# Altium schematic symbol library BMS_V2.1_Adv.SchLib: 129 symbols (part 1 of 3)
Pins are listed as number, name and electrical type; pins without a type are passive.

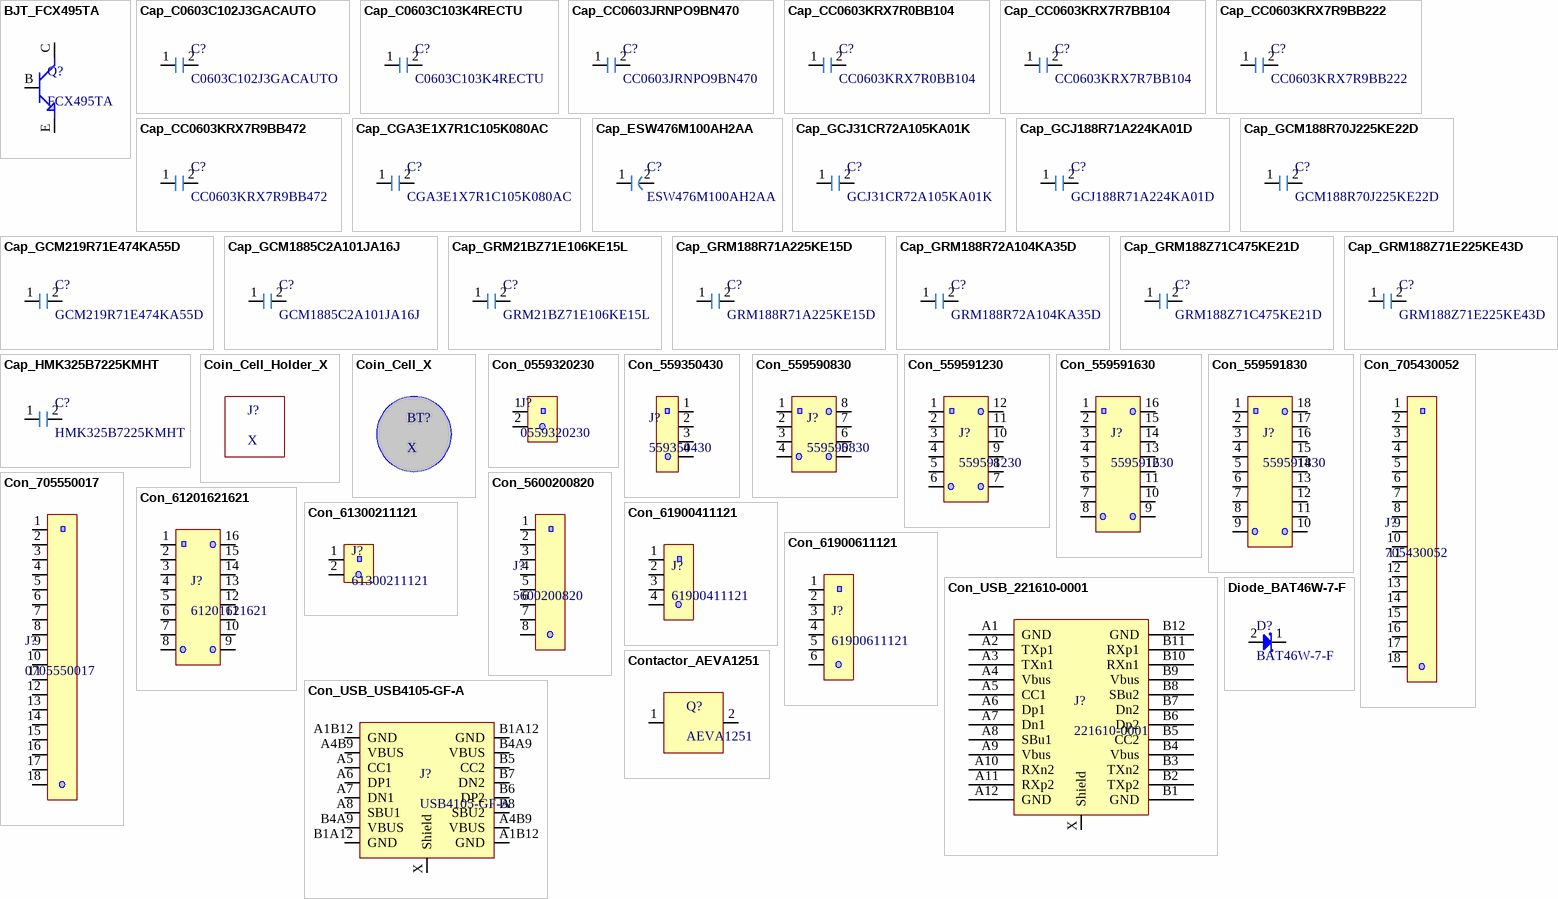
[diagram p0: symbols BJT_FCX495TA to Diode_BAT46W-7-F]

## BJT_FCX495TA
designator Q?, comment FCX495TA
Bipolar (BJT) Transistor NPN 150 V 1 A 100MHz 1 W Surface Mount SOT-89-3; Manufacturer: Diodes Inc.; Value: 150V 1A; Power: 1W; Voltage: 150V; AEC-Q: 101; Max Temp: 150 degC; Min Temp: -65 degC; Package: SOT 89-3; Manufacturer Part Number: FCX495TA; Category: BJT; RoHS: Yes; Supplier 1 pricing per Unit: 38.37 INR; ComponentLink1Description: Datasheet; ComponentLink1URL: https://www.diodes.com/assets/Datasheets/FCX495.pdf; Supplier 1: Digikey; Supplier: Mouser; Value 1: FCX495TA; Value Display: 150V 1A; Supplier 1 Part Number: FCX495CT-ND; Supplier Part Number: 522-FCX495TA; Supplier pricing per Unit: 27.52 INR; Mount Type: Surface Mount; Technology: BJT; Channel: NPN
footprint SOT89-150P410X160-3N (SOT89, 3-Leads, Body 4.50x2.50mm, Pitch 1.50mm, Lead Span 4.1mm, IPC Medium Density)
pins: B Base, C Collector, E Emitter

## Cap_C0603C102J3GACAUTO
designator C?, comment C0603C102J3GACAUTO
Multilayer Ceramic Capacitor, 1000 pF, 25V, ±5%,  C0G 0603 [1608 Metric]; Manufacturer: KEMET; Value: 1nF; Max Temp: 125 degC; Min Temp: -55 degC; Polarized: No; Temp Coefficient: C0G, NP0; Value Display: 1nF,25 V,0603; AEC-Q: 200; Manufacturer Part Number: C0603C102J3GACAUTO; Voltage: 25V; Category: Capacitor; ComponentLink1Description: Datasheet; Mount Type: Surface Mount; Package: 0603; RoHS: Yes; Supplier 1: Digikey; Supplier 1 Part Number: 399-C0603C102J3GACAUTOCT-ND; Supplier 1 pricing per Unit: 9.17 INR; Supplier: Mouser; Supplier Part Number: 80-C0603C102J3GAUTO; Supplier pricing per Unit: 8.34 INR; Technology: Ceramic; Tolerance: 5%; Value 1: C0603C102J3GACAUTO; ComponentLink1URL: https://connect.kemet.com:7667/gateway/IntelliData-ComponentDocumentation/1.0/download/datasheet/C0603C102J3GACAUTO
footprint CAPC1608X05N 0603 (Chip Capacitor, 2-Leads, Body 1.55x0.85mm, IPC Medium Density)
pins: 1, 2

## Cap_C0603C103K4RECTU
designator C?, comment C0603C103K4RECTU
Multilayer Ceramic Capacitor, 10 nF, 16V, ±10%,  X7R 0603 [1608 Metric]; Manufacturer: KEMET; AEC-Q: NA; Max Temp: 125 degC; Min Temp: -55 degC; Polarized: No; Value: 10 nF; Value Display: 10nF,16 V,0603; Category: Capacitor; ComponentLink1Description: Datasheet; ComponentLink1URL: https://content.kemet.com/datasheets/KEM_C1090_X7R_ESD.pdf; Manufacturer Part Number: C0603C103K4RECTU; Mount Type: Surface Mount; Package: 0603; RoHS: Yes; Supplier 1: Digikey; Supplier 1 Part Number: 399-C0603C103K4REC7867CT-ND; Supplier 1 pricing per Unit: 9.21 INR; Supplier: Mouser; Supplier Part Number: 80-C0603C103K4RECTU; Supplier pricing per Unit: 8.34 INR; Technology: Ceramic; Temp Coefficient: X7R; Tolerance: 10%; Value 1: C0603C103K4RECTU; Voltage: 16V
footprint CAPC1608X05N 0603 (Chip Capacitor, 2-Leads, Body 1.55x0.85mm, IPC Medium Density)
pins: 1, 2

## Cap_CC0603JRNPO9BN470
designator C?, comment CC0603JRNPO9BN470
Multilayer Ceramic Capacitor, 47 pF, 50V, ±5%,  C0G 0603 [1608 Metric]; Manufacturer: Yageo; AEC-Q: NA; Max Temp: 125 degC; Min Temp: -55 degC; Polarized: No; Temp Coefficient: C0G, NP0; Value: 47pF; Value Display: 47pF,50 V,0603; Manufacturer Part Number: CC0603JRNPO9BN470; Category: Capacitor; ComponentLink1Description: Datasheet; ComponentLink1URL: https://www.yageo.com/upload/media/product/productsearch/datasheet/mlcc/UPY-GP_NP0_16V-to-50V_18.pdf; Mount Type: Surface Mount; Package: 0603; RoHS: Yes; Supplier 1: Digikey; Supplier 1 Part Number: 311-1065-1-ND; Supplier 1 pricing per Unit: 8.34 INR; Supplier: Mouser; Supplier Part Number: 603-CC603JRNPO9BN470; Supplier pricing per Unit: 8.34 INR; Technology: Ceramic; Tolerance: 5%; Value 1: CC0603JRNPO9BN470; Voltage: 50V
footprint CAPC1608X05N 0603 (Chip Capacitor, 2-Leads, Body 1.55x0.85mm, IPC Medium Density)
pins: 1, 2

## Cap_CC0603KRX7R0BB104
designator C?, comment CC0603KRX7R0BB104
Multilayer Ceramic Capacitor, 0.1uF, 100V, ±10%,  X7R 0603 [1608 Metric]; Manufacturer: Yageo; AEC-Q: NA; Max Temp: 125 degC; Min Temp: -55 degC; Polarized: No; Value Display: 0.1uF,100V,0603; Category: Capacitor; ComponentLink1Description: Datasheet; ComponentLink1URL: https://www.yageo.com/upload/media/product/app/datasheet/mlcc/upy-np0x7r_mv_100-to-630v.pdf; Manufacturer Part Number: CC0603KRX7R0BB104; Mount Type: Surface Mount; Package: 0603; RoHS: Yes; Supplier 1: Digikey; Supplier 1 Part Number: 311-1523-1-ND; Supplier 1 pricing per Unit: 14.19 INR; Supplier: Mouser; Supplier Part Number: 603-CC603KRX7R0BB104; Supplier pricing per Unit: 14.19 INR; Technology: Ceramic; Temp Coefficient: X7R; Tolerance: 10%; Value 1: CC0603KRX7R0BB104; Value: 0.1uF; Voltage: 100V
footprint CAPC1608X05N 0603 (Chip Capacitor, 2-Leads, Body 1.55x0.85mm, IPC Medium Density)
pins: 1, 2

## Cap_CC0603KRX7R7BB104
designator C?, comment CC0603KRX7R7BB104
Multilayer Ceramic Capacitor, 100 nF, 16V, ±10%,  X7R 0603 [1608 Metric]; Manufacturer: Yageo; Value: 100nF; Max Temp: 125 degC; Min Temp: -55 degC; Polarized: No; Value Display: 100nF,16 V,0603; AEC-Q: NA; Manufacturer Part Number: CC0603KRX7R7BB104; Category: Capacitor; ComponentLink1Description: Datasheet; Mount Type: Surface Mount; Package: 0603; RoHS: Yes; Supplier 1: Digikey; Supplier 1 Part Number: 311-1088-1-ND; Supplier 1 pricing per Unit: 8.34 INR; Supplier: Mouser; Supplier Part Number: 603-CC603KRX7R7BB104; Supplier pricing per Unit: 8.34 INR; Technology: Ceramic; Temp Coefficient: X7R; Tolerance: 10%; Value 1: CC0603KRX7R7BB104; Voltage: 16V; ComponentLink1URL: https://www.yageo.com/upload/media/product/productsearch/datasheet/mlcc/UPY-GPHC_X7R_6.3V-to-250V_24.pdf
footprint CAPC1608X05N 0603 (Chip Capacitor, 2-Leads, Body 1.55x0.85mm, IPC Medium Density)
pins: 1, 2

## Cap_CC0603KRX7R9BB222
designator C?, comment CC0603KRX7R9BB222
Multilayer Ceramic Capacitor, 2.2nF, 50V, ±10%,  X7R 0603 [1608 Metric]; Manufacturer: Yageo; AEC-Q: NA; Max Temp: 125 degC; Min Temp: -55 degC; Polarized: No; Value Display: 2.2nF,50 V,0603; Manufacturer Part Number: CC0603KRX7R9BB222; Category: Capacitor; ComponentLink1Description: Datasheet; ComponentLink1URL: https://www.yageo.com/upload/media/product/productsearch/datasheet/mlcc/UPY-GPHC_X7R_6.3V-to-250V_24.pdf; Mount Type: Surface Mount; Package: 0603; RoHS: Yes; Supplier 1: Digikey; Supplier 1 Part Number: 311-1081-1-ND; Supplier 1 pricing per Unit: 8.34 INR; Supplier: Mouser; Supplier Part Number: 603-CC603KRX7R9BB222; Supplier pricing per Unit: 8.34 INR; Technology: Ceramic; Temp Coefficient: X7R; Tolerance: 10%; Value 1: CC0603KRX7R9BB222; Value: 2.2 nF; Voltage: 50V
footprint CAPC1608X05N 0603 (Chip Capacitor, 2-Leads, Body 1.55x0.85mm, IPC Medium Density)
pins: 1, 2

## Cap_CC0603KRX7R9BB472
designator C?, comment CC0603KRX7R9BB472
Multilayer Ceramic Capacitor, 2.2nF, 50V, ±10%,  X7R 0603 [1608 Metric]; Manufacturer: Yageo; AEC-Q: NA; Max Temp: 125 degC; Min Temp: -55 degC; Polarized: No; Value: 4.7 nF; Value Display: 4.7nF,50 V,0603; Category: Capacitor; ComponentLink1Description: Datasheet; ComponentLink1URL: https://www.yageo.com/upload/media/product/productsearch/datasheet/mlcc/UPY-GPHC_X7R_6.3V-to-250V_24.pdf; Manufacturer Part Number: CC0603KRX7R9BB472; Mount Type: Surface Mount; Package: 0603; RoHS: Yes; Supplier 1: Digikey; Supplier 1 Part Number: 311-1083-1-ND; Supplier 1 pricing per Unit: 8.34 INR; Supplier: Mouser; Supplier Part Number: 603-C0603KRX7R9BB472; Supplier pricing per Unit: 8.34 INR; Technology: Ceramic; Temp Coefficient: X7R; Tolerance: 10%; Value 1: CC0603KRX7R9BB472; Voltage: 50V
footprint CAPC1608X05N 0603 (Chip Capacitor, 2-Leads, Body 1.55x0.85mm, IPC Medium Density)
pins: 1, 2

## Cap_CGA3E1X7R1C105K080AC
designator C?, comment CGA3E1X7R1C105K080AC
Multilayer Ceramic Capacitor, 1uF, 16V, ±10%,  X7R 0603 [1608 Metric]; Manufacturer: TDK Corporation; Polarized: No; AEC-Q: 200; Min Temp: -55 degC; Max Temp: 125 degC; Value Display: 1uF,16 V,0603; Value: 1 uF; Manufacturer Part Number: CGA3E1X7R1C105K080AC; Package: 0603; RoHS: Yes; Mount Type: Surface Mount; Supplier 1: Digikey; Voltage: 16V; Tolerance: 10%; Technology: Ceramic; Value 1: CGA3E1X7R1C105K080AC; Category: Capacitor; ComponentLink1Description: Datasheet; ComponentLink1URL: https://product.tdk.com/system/files/dam/doc/product/capacitor/ceramic/mlcc/catalog/mlcc_automotive_general_en.pdf; Supplier 1 Part Number: 445-12539-1-ND; Supplier 1 pricing per Unit: 10.84 INR; Supplier: Mouser; Supplier Part Number: 810-CGA3E1X7R1C105AC; Supplier pricing per Unit: 10.01 INR; Temp Coefficient: X7R
footprint CAPC1608X05N 0603 (Chip Capacitor, 2-Leads, Body 1.55x0.85mm, IPC Medium Density)
pins: 1, 2

## Cap_ESW476M100AH2AA
designator C?, comment ESW476M100AH2AA
Aluminum Electrolytic Capacitors Radial, 47 µF 100 V, Can 370mOhm @ 100kHz 5000 Hrs @ 105°C; Manufacturer: KEMET; AEC-Q: NA; Max Temp: 105 degC; Min Temp: -40 degC; Pitch: 5 mm; Polarized: Yes; Temp Coefficient: Electrolyte; Tolerance: 20%; Value: 47uF; Value Display: 47uF, 100 V; Voltage: 100V; Manufacturer Part Number: ESW476M100AH2AA; Category: Capacitor; ComponentLink1Description: Datasheet; ComponentLink1URL: https://www.mouser.in/datasheet/2/447/KEM_A4009_ESW-3316312.pdf; Mount Type: TH; Package: TH; RoHS: Yes; Supplier 1: Digikey; Supplier 1 Part Number: 399-6631-ND; Supplier 1 pricing per Unit: 35.85 INR; Supplier: Mouser; Supplier Part Number: 80-ESW476M100AH2AA; Supplier pricing per Unit: 35.86 INR; Technology: Electrolyte; Value 1: ESW476M100AH2AA
footprint Aluminium Electrolytic Capacitor (Electrolytic Capacitor -Through Hole)
pins: 1, 2

## Cap_GCJ31CR72A105KA01K
designator C?, comment GCJ31CR72A105KA01K
Multilayer Ceramic Capacitor, 1uF, 100V, ±10%,  X7R 1206 [3216 Metric]; Manufacturer: Murata; Value Display: 1uF, 100 V, 0603; AEC-Q: 200; Max Temp: 125 degC; Min Temp: -55 degC; Polarized: No; Value: 1uF; Tolerance: 10%; Manufacturer Part Number: GCJ31CR72A105KA01K; Package: 1206; Category: Capacitor; Voltage: 100V; Temp Coefficient: X7R; RoHS: Yes; Supplier: Mouser; Supplier 1 pricing per Unit: 40.02 INR; ComponentLink1Description: Datasheet; ComponentLink1URL: https://search.murata.co.jp/Ceramy/image/img/A01X/G101/ENG/GCJ31CR72A105KA01-01.pdf; Supplier 1: Digikey; Value 1: GCJ31CR72A105KA01K; Supplier 1 Part Number: 490-GCJ31CR72A105KA01KCT-ND; Supplier Part Number: 81-GCJ31CR72A105KA1K; Supplier pricing per Unit: 40.3 INR; Mount Type: Surface Mount; Technology: Ceramic
footprint CAPC3216X19N 1206 (Chip Capacitor, 2-Leads, Body 3.20x1.60mm, IPC Medium Density)
pins: 1, 2

## Cap_GCJ188R71A224KA01D
designator C?, comment GCJ188R71A224KA01D
Multilayer Ceramic Capacitor, 220 nF, 10V, ±10%,  X7R 0603 [1608 Metric]; Manufacturer: Murata; Value: 220 nF; Value Display: 220nF, 10 V, 0603; AEC-Q: 200; Max Temp: 125 degC; Min Temp: -55 degC; Polarized: No; Manufacturer Part Number: GCJ188R71A224KA01D; Tolerance: 10%; Package: 0603; Category: Capacitor; Temp Coefficient: X7R; RoHS: Yes; Voltage: 10V; Supplier: Mouser; Supplier 1 pricing per Unit: 16.28 INR; ComponentLink1Description: Datasheet; ComponentLink1URL: https://search.murata.co.jp/Ceramy/image/img/A01X/G101/ENG/GCJ188R71A224KA01-02B.pdf; Supplier 1: Digikey; Value 1: GCJ188R71A224KA01D; Supplier 1 Part Number: 490-GCJ188R71A224KA01DTR-ND; Supplier Part Number: 81-GCJ188R71A224KA1D; Supplier pricing per Unit: 12.51 INR; Mount Type: Surface Mount; Technology: Ceramic
footprint CAPC1608X05N 0603 (Chip Capacitor, 2-Leads, Body 1.55x0.85mm, IPC Medium Density)
pins: 1, 2

## Cap_GCM188R70J225KE22D
designator C?, comment GCM188R70J225KE22D
Multilayer Ceramic Capacitor, 2.2 uF, 6.3V, ±10%,  X7R 0603 [1608 Metric]; Manufacturer: Murata; Value: 2.2 uF; Value Display: 2.2uF,6.3 V,0603; AEC-Q: 200; Max Temp: 125 degC; Min Temp: -55 degC; Polarized: No; Manufacturer Part Number: GCM188R70J225KE22D; Tolerance: 10%; Category: Capacitor; Temp Coefficient: X7R; Package: 0603; Voltage: 6.3V; Supplier: Mouser; Supplier 1 pricing per Unit: 21.60 INR; RoHS: Yes; ComponentLink1Description: Datasheet; ComponentLink1URL: https://search.murata.co.jp/Ceramy/image/img/A01X/G101/ENG/GCM188R70J225KE22-01.pdf; Supplier 1: Digikey; Value 1: GCM188R70J225KE22D; Supplier 1 Part Number: 490-5316-1-ND; Supplier Part Number: 81-GCM188R70J225KE2D; Supplier pricing per Unit: 20.85 INR; Mount Type: Surface Mount; Technology: Ceramic
footprint CAPC1608X05N 0603 (Chip Capacitor, 2-Leads, Body 1.55x0.85mm, IPC Medium Density)
pins: 1, 2

## Cap_GCM219R71E474KA55D
designator C?, comment GCM219R71E474KA55D
Multilayer Ceramic Capacitor, 0.47 uF, 25V, ±10%,  X7R 0805 [2012 Metric]; Manufacturer: Murata; Value: 0.47 uF; AEC-Q: 200; Value Display: 0.47uF,25 V,0805; Max Temp: 125 degC; Min Temp: -55 degC; Polarized: No; Manufacturer Part Number: GCM219R71E474KA55D; Supplier: Mouser; Supplier 1: Digikey; Package: 0805; RoHS: Yes; Temp Coefficient: X7R; Category: Capacitor; ComponentLink1Description: Datasheet; ComponentLink1URL: https://www.murata.com/-/media/webrenewal/support/library/catalog/products/k35e.ashx?la=en-us&cvid=20200508021757000000; Supplier 1 Part Number: 490-8044-1-ND; Supplier 1 pricing per Unit: 26.68 INR; Supplier Part Number: 81-GCM219R71E474KA5D; Supplier pricing per Unit: 26.69 INR; Tolerance: 10%; Value 1: GCM219R71E474KA55D; Voltage: 25V; Mount Type: Surface Mount; Technology: Ceramic
footprint CAPC2012X13N 0805 (Chip Capacitor, 2-Leads, Body 2.05x1.23mm, IPC Medium Density)
pins: 1, 2

## Cap_GCM1885C2A101JA16J
designator C?, comment GCM1885C2A101JA16J
Multilayer Ceramic Capacitor, 100 pF, 100V, ±5%,  C0G 0603 [1608 Metric]; Manufacturer: Murata; Value: 100pF; Value Display: 100pF,100 V,0603; AEC-Q: 200; Max Temp: 125 degC; Min Temp: -55 degC; Polarized: No; Category: Capacitor; Temp Coefficient: C0G; Tolerance: 5%; Voltage: 100V; Manufacturer Part Number: GCM1885C2A101JA16J; Package: 0603; RoHS: Yes; Supplier: Mouser; Supplier 1 pricing per Unit: 8.33 INR; ComponentLink1Description: Datasheet; ComponentLink1URL: https://www.murata.com/-/media/webrenewal/support/library/catalog/products/k35e.ashx?la=en-us&cvid=20200508021757000000; Supplier 1: Digikey; Value 1: GCM1885C2A101JA16J; Supplier 1 Part Number: 490-GCM1885C2A101JA16JCT-ND; Supplier Part Number: 81-GCM1885C2A101JA6J; Supplier pricing per Unit: 8.33 INR; Mount Type: Surface Mount; Technology: Ceramic
footprint CAPC1608X05N 0603 (Chip Capacitor, 2-Leads, Body 1.55x0.85mm, IPC Medium Density)
pins: 1, 2

## Cap_GRM21BZ71E106KE15L
designator C?, comment GRM21BZ71E106KE15L
Multilayer Ceramic Capacitor, 10 uF, 25V, ±10%,  X7R 0805 (2012 Metric); Manufacturer: Murata; AEC-Q: NA; Max Temp: 125 degC; Min Temp: -55 degC; Polarized: No; Value: 10 uF; Value Display: 10uF, 25V, 0805; Category: Capacitor; ComponentLink1Description: Datasheet; ComponentLink1URL: https://search.murata.co.jp/Ceramy/image/img/A01X/G101/ENG/GRM21BZ71E106KE15-01.pdf; Manufacturer Part Number: GRM21BZ71E106KE15L; Mount Type: Surface Mount; Package: 0805; RoHS: Yes; Supplier 1: Digikey; Supplier 1 Part Number: 490-GRM21BZ71E106KE15LCT-ND; Supplier 1 pricing per Unit: 28.51 INR; Supplier: Mouser; Supplier Part Number: 81-GRM21BZ71E106KE5L; Supplier pricing per Unit: 30.02 INR; Technology: Ceramic; Temp Coefficient: X7R; Tolerance: 10%; Value 1: GRM21BZ71E106KE15L; Voltage: 25V
footprint CAPC2012X13N 0805 (Chip Capacitor, 2-Leads, Body 2.05x1.23mm, IPC Medium Density)
pins: 1, 2

## Cap_GRM188R71A225KE15D
designator C?, comment GRM188R71A225KE15D
Multilayer Ceramic Capacitor, 2.2 uF, 10 V, ± 10%, X7R, 0603 [1608 Metric]; Manufacturer: Murata; Value: 2.2uF; Voltage: 10V; Value Display: 2.2uF,10 V,0603; AEC-Q: NA; Max Temp: 125 degC; Min Temp: -55 degC; Polarized: No; Manufacturer Part Number: GRM188R71A225KE15D; RoHS: Yes; Category: Capacitor; Package: 0603; Tolerance: 10%; Temp Coefficient: X7R; ComponentLink1Description: Datasheet; Supplier: Mouser; ComponentLink1URL: https://www.murata.com/-/media/webrenewal/support/library/catalog/products/k35e.ashx?la=en-us&cvid=20200508021757000000; Supplier 1 pricing per Unit: 15.00 INR; Supplier 1: Digikey; Value 1: GRM188R71A225KE15D; Supplier 1 Part Number: 490-4520-1-ND; Supplier Part Number: 81-GRM188R71A225KE15; Supplier pricing per Unit: 13.34 INR; Mount Type: Surface Mount; Technology: Ceramic
footprint CAPC1608X05N 0603 (Chip Capacitor, 2-Leads, Body 1.55x0.85mm, IPC Medium Density)
pins: 1, 2

## Cap_GRM188R72A104KA35D
designator C?, comment GRM188R72A104KA35D
Multilayer Ceramic Capacitor, 100 nF, 100 V, ± 10%, X7R, 0603 [1608 Metric]; Manufacturer: Murata; AEC-Q: NA; Max Temp: 125 degC; Min Temp: -55 degC; Polarized: No; Value: 100 nF; Value Display: 100nF, 100V,0603; Voltage: 100V; Category: Capacitor; ComponentLink1Description: Datasheet; ComponentLink1URL: https://search.murata.co.jp/Ceramy/image/img/A01X/G101/ENG/GRM188R72A104KA35-01.pdf; Manufacturer Part Number: GRM188R72A104KA35D; Mount Type: Surface Mount; Package: 0603; RoHS: Yes; Supplier 1: Digikey; Supplier 1 Part Number: 490-3285-1-ND; Supplier 1 pricing per Unit: 17.71 INR; Supplier: Mouser; Supplier Part Number: 81-GRM188R72A104KA35; Supplier pricing per Unit: 17.71 INR; Technology: Ceramic; Temp Coefficient: X7R; Tolerance: 10%; Value 1: GRM188R72A104KA35D
footprint CAPC1608X05N 0603 (Chip Capacitor, 2-Leads, Body 1.55x0.85mm, IPC Medium Density)
pins: 1, 2

## Cap_GRM188Z71C475KE21D
designator C?, comment GRM188Z71C475KE21D
Multilayer Ceramic Capacitor, 4.7 uF, 16 V, ± 10%, X7R, 0603 [1608  Metric]; Manufacturer: Murata; AEC-Q: NA; Max Temp: 125 degC; Min Temp: -55 degC; Polarized: No; Value: 4.7uF; Value Display: 4.7uF, 16V, 0603; Voltage: 16V; Category: Capacitor; ComponentLink1Description: Datasheet; ComponentLink1URL: https://search.murata.co.jp/Ceramy/image/img/A01X/G101/ENG/GRM188Z71C475KE21-01A.pdf; Manufacturer Part Number: GRM188Z71C475KE21D; Mount Type: Surface Mount; Package: 0603; RoHS: Yes; Supplier 1: Digikey; Supplier 1 Part Number: 490-GRM188Z71C475KE21DCT-ND; Supplier 1 pricing per Unit: 22.53 INR; Supplier: Mouser; Supplier Part Number: 81-GRM188Z71C475KE1D; Supplier pricing per Unit: 20.85 INR; Technology: Ceramic; Temp Coefficient: X7R; Tolerance: 10%; Value 1: GRM188Z71C475KE21D
footprint CAPC1608X05N 0603 (Chip Capacitor, 2-Leads, Body 1.55x0.85mm, IPC Medium Density)
pins: 1, 2

## Cap_GRM188Z71E225KE43D
designator C?, comment GRM188Z71E225KE43D
2.2 µF ±10% 25V Ceramic Capacitor X7R 0603 (1608 Metric); Manufacturer: Murata; AEC-Q: NA; Max Temp: 125 degC; Min Temp: -55 degC; Polarized: No; Value: 2.2uF; Value Display: 2.2 uF, 25V, 0603; Category: Capacitor; ComponentLink1Description: Datasheet; ComponentLink1URL: https://search.murata.co.jp/Ceramy/image/img/A01X/G101/ENG/GRM188Z71E225KE43-01A.pdf; Manufacturer Part Number: GRM188Z71E225KE43D; Mount Type: Surface Mount; Package: 0603; RoHS: Yes; Supplier 1: Digikey; Supplier 1 Part Number: 490-GRM188Z71E225KE43DCT-ND; Supplier 1 pricing per Unit: 19.34 INR; Supplier: Mouser; Supplier Part Number: 81-GRM188Z71E225KE3D; Supplier pricing per Unit: 19.18 INR; Technology: Ceramic; Temp Coefficient: X7R; Tolerance: 10%; Value 1: GRM188Z71E225KE43D; Voltage: 25V
footprint CAPC1608X05N 0603 (Chip Capacitor, 2-Leads, Body 1.55x0.85mm, IPC Medium Density)
pins: 1, 2

## Cap_HMK325B7225KMHT
designator C?, comment HMK325B7225KMHT
Multilayer Ceramic Capacitor, 2.2 uF, 100 V, ± 10%, X7R, 1210 [3225 Metric]; Manufacturer: Taiyo Yuden; AEC-Q: 200; Max Temp: 125 degC; Min Temp: -55 degC; Polarized: No; Value: 2.2uF; Value Display: 2.2uF,100 V,1210; Voltage: 100V; Manufacturer Part Number: HMK325B7225KMHT; Category: Capacitor; ComponentLink1Description: Datasheet; ComponentLink1URL: https://ds.yuden.co.jp/TYCOMPAS/ut/detail?pn=HMK325B7225KMHT%20%20&u=M; Mount Type: Surface Mount; Package: 1210; RoHS: Yes; Supplier 1: Digikey; Supplier 1 Part Number: 587-6142-1-ND; Supplier 1 pricing per Unit: 33.35 INR; Supplier: Mouser; Supplier Part Number: 963-HMK325B7225KMHT; Supplier pricing per Unit: 32.53 INR; Technology: Ceramic; Temp Coefficient: X7R; Tolerance: 10%; Value 1: HMK325B7225KMHT
footprint CAPC3225X28N 1210 (Chip Capacitor, 2-Leads, Body 3.20x2.50mm, IPC Medium Density)
pins: 1, 2

## Coin_Cell_Holder_X
designator J?, comment X
AEC-Q: NA; Category: Coin Cell holder; ComponentLink1Description: Datasheet; ComponentLink1URL: X; Manufacturer: X; Manufacturer Part Number: X; Mount Type: X; Package: X; RoHS: X; Supplier 1: Digikey; Supplier 1 Part Number: X; Supplier 1 pricing per Unit: X; Supplier: Mouser; Supplier Part Number: X; Supplier pricing per Unit: X; Value 1: X; Value: X; Value Display: X

## Coin_Cell_X
designator BT?, comment X
AEC-Q: NA; Category: Coin Cell; ComponentLink1Description: Datasheet; ComponentLink1URL: X; Manufacturer: X; Manufacturer Part Number: X; Mount Type: X; Package: X; RoHS: X; Supplier 1: Digikey; Supplier 1 Part Number: X; Supplier 1 pricing per Unit: X; Supplier: Mouser; Supplier Part Number: X; Supplier pricing per Unit: X; Value 1: X; Value: X; Value Display: X

## Con_0559320230
designator J?, comment 0559320230
Connector Header Through Hole 2 position 0.079" (2.00mm); Alternate Part Number: NA; Crimp Part Number: 561349000; Manufacturer: Molex; Mating Part Number: 513820200; Circuits: 2; No. of Rows: 1; Value: 2 Pin; Value Display: 2 Pin/Vert/TH; Category: Connector; Colour: Natural; ComponentLink1Description: Datasheet; ComponentLink1URL: https://www.molex.com/en-us/products/part-detail/559320230?display=pdf; Manufacturer Part Number: 0559320230; Mount Type: TH; Package: THT; Pitch: 2.00 mm; RoHS: Yes; Supplier 1: Digikey; Supplier 1 Part Number: WM12283-ND; Supplier 1 pricing per Unit: 25.11 INR; Supplier: Mouser; Supplier Part Number: 538-55932-0230; Supplier pricing per Unit: 18.35 INR; Value 1: 559320230; AEC-Q: NA; Rows: 1
footprint Con_0559320230 (2 Pin Connector - Through Hole - 2mm Pitch)
pins: 1, 2

## Con_559350430
designator J?, comment 559350430
2.00mm Pitch MicroClasp Wire-to-Board Header, Dual Row, Right Angle, 4 Circuits; Crimp Part Number: 561349000; Manufacturer: Molex; Manufacturer Part Number: 0559350430; Mating Part Number: 513820400; Circuits: 4; AEC-Q: NA; Rows: 1; Value: 4 Pin; Value Display: 4 Pin/RA/TH; Category: Connector; Colour: Natural; ComponentLink1Description: Datasheet; Pitch: 2.00 mm; ComponentLink1URL: https://www.molex.com/en-us/products/part-detail-pdf/559350430?display=pdf; Mount Type: TH; Package: THT; RoHS: Yes; Supplier 1: Digikey; Supplier 1 Part Number: WM12300-ND; Supplier 1 pricing per Unit: 36.05 INR; Supplier: Mouser; Supplier Part Number: 538-55935-0430; Supplier pricing per Unit: 28.36 INR; Value 1: 559350430
footprint Con_559350430 (559350430 2mm Pitch connector)
pins: 1, 2, 3, 4

## Con_559590830
designator J?, comment 559590830
2.00mm Pitch MicroClasp Wire-to-Board Header, Dual Row, Right Angle, 8 Circuits; Crimp Part Number: 561349000; Manufacturer: Molex; Manufacturer Part Number: 0559590830; Mating Part Number: 513530800; Circuits: 8; AEC-Q: NA; Rows: 2; Value: 8 Pin; Value Display: 8 Pin/RA/TH; Category: Connector; Colour: Natural; ComponentLink1Description: Datasheet; Pitch: 2.00 mm; ComponentLink1URL: https://www.molex.com/en-us/products/part-detail-pdf/559590830?display=pdf; Mount Type: TH; Package: THT; RoHS: Yes; Supplier 1: Digikey; Supplier 1 Part Number: WM10112-ND; Supplier 1 pricing per Unit: 59.53 INR; Supplier: Mouser; Supplier Part Number: 538-55959-0830; Supplier pricing per Unit: 66.72 INR; Value 1: 559590830
footprint Con_559590830 (559590830 2mm Pitch connector)
pins: 1, 2, 3, 4, 5, 6, 7, 8

## Con_559591230
designator J?, comment 559591230
2.00mm Pitch MicroClasp Wire-to-Board Header, Dual Row, Right Angle, 12 Circuits; Crimp Part Number: 561349000; Manufacturer: Molex; Manufacturer Part Number: 0559591230; Mating Part Number: 513531200; AEC-Q: NA; Circuits: 12; Rows: 2; Value: 12 Pin; Value Display: 12 Pin/RA/TH; Category: Connector; Colour: Natural; RoHS: Yes; Supplier 1: Digikey; Supplier 1 Part Number: WM12307-ND; Supplier: Mouser; Supplier Part Number: 538-55959-1230; Supplier 1 pricing per Unit: 92.91 INR; Supplier pricing per Unit: 87.57 INR; Pitch: 2.00 mm; ComponentLink1Description: Datasheet; ComponentLink1URL: https://www.molex.com/en-us/products/part-detail-pdf/559591230?display=pdf; Mount Type: TH; Package: THT; Value 1: 559591230
footprint Con_0559591230 (0559591230)
pins: 1, 2, 3, 4, 5, 6, 7, 8, 9, 10, 11, 12

## Con_559591630
designator J?, comment 559591630
2.00mm Pitch MicroClasp Wire-to-Board Header, Dual Row, Right Angle, 16 Circuits; Crimp Part Number: 561349000; Manufacturer: Molex; Manufacturer Part Number: 0559591630; Mating Part Number: 513531600; AEC-Q: NA; Circuits: 16; Rows: 2; Value: 16 Pin; Value Display: 16 Pin/RA/TH; Category: Connector; Colour: Natural; RoHS: Yes; Supplier 1: Digikey; Supplier 1 Part Number: WM7597-ND; Supplier: Mouser; Supplier Part Number: 538-55959-1630; Supplier 1 pricing per Unit: 77.84 INR; Supplier pricing per Unit: 74.23 INR; Pitch: 2.00 mm; ComponentLink1Description: Datasheet; ComponentLink1URL: https://www.molex.com/en-us/products/part-detail-pdf/559591630?display=pdf; Mount Type: TH; Package: THT; Value 1: 559591630
footprint Con_0559591630 (0559591630)
pins: 1, 2, 3, 4, 5, 6, 7, 8, 9, 10, 11, 12, 13, 14, 15, 16

## Con_559591830
designator J?, comment 559591830
2.00mm Pitch MicroClasp Wire-to-Board Header, Dual Row, Right Angle, 18 Circuits; Crimp Part Number: 561349000; Manufacturer: Molex; Manufacturer Part Number: 0559591830; Mating Part Number: 513531800; AEC-Q: NA; Circuits: 18; Rows: 2; Value: 18 Pin; Value Display: 18 Pin/RA/TH; Category: Connector; Colour: Natural; RoHS: Yes; Supplier 1: Digikey; Supplier 1 Part Number: WM14663-ND; Supplier: Mouser; Supplier Part Number: 538-55959-1830; Supplier 1 pricing per Unit: 117.35 INR; Supplier pricing per Unit: 111.76 INR; Pitch: 2.00 mm; ComponentLink1Description: Datasheet; ComponentLink1URL: https://www.molex.com/en-us/products/part-detail-pdf/559591830?display=pdf; Mount Type: TH; Package: THT; Value 1: 559591830
footprint Con_0559591830 (0559591830)
pins: 1, 2, 3, 4, 5, 6, 7, 8, 9, 10, 11, 12, 13, 14, 15, 16, 17, 18

## Con_705430052
designator J?, comment 705430052
Connector for cell, 18 Pos,THT, 2.54 mm Pitch, 705430052; Manufacturer: Molex; Mating Part Number: 50579418; Crimp Part Number: 16020069; Alternate Part Number: 705550052; Pitch: 2.54 mm; Circuits: 18; Value: 18 Pin; Value Display: 18 Pin/Vert/TH; No. of Rows: 1; AEC-Q: NA; Manufacturer Part Number: 705430052; RoHS: Yes; Category: Connector; Package: THT; Supplier: Mouser; Supplier 1 pricing per Unit: NA; ComponentLink1Description: Datasheet; ComponentLink1URL: https://www.molex.com/en-us/products/part-detail/15912185?display=pdf; Supplier 1: Digikey; Value 1: 705430052; Supplier 1 Part Number: NA; Supplier Part Number: 538-70543-0052; Supplier pricing per Unit: 467.87 INR; Mount Type: TH; Colour: Black; Rows: 1
footprint Con_705430052 (18 Pin Through Hole Connector -2.54mm Pitch)
pins: 1 Cell 0, 2 Cell 1, 3 Cell 2, 4 Cell 3, 5 Cell 4, 6 Cell 5, 7 Cell 6, 8 Cell 7, 9 Cell 8, 10 Cell 9, 11 Cell 10, 12 Cell 11, 13 Cell 12, 14 Cell 13, 15 Cell 14, 16 Cell 15, 17 Cell 16, 18 Cell 17

## Con_705550017
designator J?, comment 0705550017
Connector Header Through Hole, Right Angle 18 position 0.100" (2.54mm); Alternate Part Number: 705550052; Crimp Part Number: 16020069; Manufacturer: Molex; Mating Part Number: 50579418; AEC-Q: NA; Circuits: 18; No. of Rows: 1; Value: 18 Pin; Value Display: 18 Pin/RA/TH; Category: Connector; Colour: Black; ComponentLink1Description: Datasheet; ComponentLink1URL: https://www.molex.com/en-us/products/part-detail-pdf/705550017?display=pdf; Manufacturer Part Number: 705550017; Mount Type: TH; Package: THT; Pitch: 2.54 mm; RoHS: Yes; Rows: 1; Supplier 1: Digikey; Supplier 1 Part Number: WM23533-ND; Supplier 1 pricing per Unit: 119.89 INR; Supplier: Mouser; Supplier Part Number: 538-70555-0017; Supplier pricing per Unit: 100.01 INR; Value 1: 0705550017
footprint Con_705550017 (18 Pin Through Hole Connector -2.54mm Pitch,RA)
pins: 1 Cell 0, 2 Cell 1, 3 Cell 2, 4 Cell 3, 5 Cell 4, 6 Cell 5, 7 Cell 6, 8 Cell 7, 9 Cell 8, 10 Cell 9, 11 Cell 10, 12 Cell 11, 13 Cell 12, 14 Cell 13, 15 Cell 14, 16 Cell 15, 17 Cell 16, 18 Cell 17

## Con_5600200820
designator J?, comment 5600200820
Connector, 8 Pos, SMD, 2MM Pitch, 5600200820; Manufacturer: Molex; Mating Part Number: 5023510800; Crimp Part Number: 5600850101; Alternate Part Number: 2MM-HSP-S08-VS-00-T-TBP; Alternate 2 Part Number (Right Angled): 5023520800; Circuits: 8; Value: 8 Pin; Value Display: 8 Pin/Vert/SMT; Pitch: 2.00 mm; No. of Rows: 1; AEC-Q: NA; Manufacturer Part Number: 5600200820; Category: Connector; ComponentLink1Description: Datasheet; ComponentLink1URL: https://www.literature.molex.com/SQLImages/kelmscott/Molex/PDF_Images/987650-8742.PDF; Mount Type: Surface Mount; Package: SMT; RoHS: Yes; Supplier 1: Digikey; Supplier 1 Part Number: WM10868CT-ND; Supplier 1 pricing per Unit: 130.07 INR; Supplier: Mouser; Supplier Part Number: 538-560020-0820; Supplier pricing per Unit: 129.27 INR; Value 1: 5600200820; Colour: Natural
footprint Con_5600200820 (8 Pin - SMD - 2mm Pitch)
pins: 1, 2, 3, 4, 5, 6, 7, 8

## Con_61201621621
designator J?, comment 61201621621
Connector Header Through Hole 16 position 0.100" (2.54mm); Alternate Part Number: 61201621721; Crimp Part Number: 63911615521; Manufacturer: Wurth Electronik; Mating Part Number: 61201623021; Circuits: 16; No. of Rows: 2; Value: 16 Pin; Value Display: 16 Pin/Vert/TH; AEC-Q: NA; Category: Connector; Colour: Black; ComponentLink1Description: Datasheet; ComponentLink1URL: https://www.we-online.com/components/products/datasheet/61201621621.pdf; Manufacturer Part Number: 61201621621; Mount Type: TH; Package: THT; Pitch: 2.54 mm; RoHS: Yes; Supplier 1: Digikey; Supplier 1 Part Number: 732-2095-ND; Supplier 1 pricing per Unit: 52.73 INR; Supplier: Mouser; Supplier Part Number: 710-61201621621; Supplier pricing per Unit: 52.54 INR; Value 1: 61201621621
footprint Con_61201621621 (16 Pin connector - 2mm Pitch - Through Hole)
pins: 1, 2, 3, 4, 5, 6, 7, 8, 9, 10, 11, 12, 13, 14, 15, 16

## Con_61300211121
designator J?, comment 61300211121
Connector Header Through Hole 2 position 0.100" (2.54mm); Crimp Part Number: 609002115121; Manufacturer: Wurth Electronik; AEC-Q: NA; Circuits: 2; No. of Rows: 1; Value: 2 Pin; Value Display: 2 Pin/Vert/TH; Alternate 2 Part Number (Right Angled): *; Alternate Part Number: *; Category: Connector; Colour: Black; ComponentLink1Description: Datasheet; ComponentLink1URL: https://www.we-online.com/components/products/datasheet/61300211121.pdf; Manufacturer Part Number: 61300211121; Mating Part Number: 609002115121; Mount Type: TH; Package: THT; Pitch: 2.54 mm; RoHS: Yes; Supplier 1: Digikey; Supplier 1 Part Number: 732-5315-ND; Supplier 1 pricing per Unit: 10.93 INR; Supplier: Mouser; Supplier Part Number: 710-61300211121; Supplier pricing per Unit: 10.84 INR; Value 1: 61300211121
footprint Con_61300211121 (2 Pin Connector - Through Hole - 2mm Pitch)
pins: 1, 2

## Con_61900411121
designator J?, comment 61900411121
Connector Header Through Hole 4 position 0.100" (2.54mm); Alternate Part Number: 61900411021; Crimp Part Number: 61900113722; Manufacturer: Wurth Electronik; Mating Part Number: 61900411621; Circuits: 4; No. of Rows: 1; Value: 4 Pin; Value Display: 4 Pin/Vert/TH; AEC-Q: NA; Category: Connector; Colour: Natural; ComponentLink1Description: Datasheet; ComponentLink1URL: https://www.we-online.com/components/products/datasheet/6190xx11121.pdf; Manufacturer Part Number: 61900411121; Mount Type: TH; Package: THT; Pitch: 2.54 mm; RoHS: Yes; Supplier 1: Digikey; Supplier 1 Part Number: 732-2697-ND; Supplier 1 pricing per Unit: 77.84 INR; Supplier: Mouser; Supplier Part Number: 710-61900411121; Supplier pricing per Unit: 78.4 INR; Value 1: 61900411121
footprint Con_61900411121 (4 pos Header - 2.54mm Pitch)
pins: 1, 2, 3, 4

## Con_61900611121
designator J?, comment 61900611121
Connector Header Through Hole 6 position 0.100" (2.54mm); Alternate Part Number: 61900619521; Crimp Part Number: 61900113722; Manufacturer: Wurth Electronik; Mating Part Number: 61900611621; Circuits: 6; No. of Rows: 1; Value: 6 Pin; Value Display: 6 PIn/Vert/TH; AEC-Q: NA; Category: Connector; Colour: Natural; ComponentLink1Description: Datasheet; ComponentLink1URL: https://www.we-online.com/components/products/datasheet/61900611121.pdf; Manufacturer Part Number: 61900611121; Mount Type: TH; Package: THT; Pitch: 2.54 mm; RoHS: Yes; Supplier 1: Digikey; Supplier 1 Part Number: 732-61900611121-ND; Supplier 1 pricing per Unit: 52.73 INR; Supplier: Mouser; Supplier Part Number: 710-61900611121; Supplier pricing per Unit: 53.38 INR; Value 1: 61900611121
footprint Con_61300611121 (6 pos Header - 2.54mm Pitch)
pins: 1, 2, 3, 4, 5, 6

## Con_USB_221610-0001
designator J?, comment 221610-0001
USB-C (USB TYPE-C) Receptacle Connector 24 Position Surface Mount, Right Angle; Manufacturer: Molex; Manufacturer Part Number: 2216100001; Alternate Part Number: 105450-0101; Value: 24 Pin; Value Display: USB 3.0 Type-C; Circuits: 24; No. of Rows: 2; Pitch: 0.5 mm; AEC-Q: NA; Category: Connector; ComponentLink1Description: Datasheet; ComponentLink1URL: https://www.molex.com/en-us/products/part-detail/2216100001?display=pdf; Mount Type: Surface Mount; Package: SMT; RoHS: Yes; Supplier 1: Digikey; Supplier 1 Part Number: 900-2216100001CT-ND; Supplier 1 pricing per Unit: 213.44 INR; Supplier: Mouser; Supplier Part Number: 538-221610-0001; Supplier pricing per Unit: 190.99 INR; Value 1: 2216100001
footprint 2216100001 (USB Type C)
pins: A1 GND, A2 TXp1, A3 TXn1, A4 Vbus, A5 CC1, A6 Dp1, A7 Dn1, A8 SBu1, A9 Vbus, A10 RXn2, A11 RXp2, A12 GND, B1 GND, B2 TXp2, B3 TXn2, B4 Vbus, B5 CC2, B6 Dp2, B7 Dn2, B8 SBu2, B9 Vbus, B10 RXn1, B11 RXp1, B12 GND, X Shield

## Con_USB_USB4105-GF-A
designator J?, comment USB4105-GF-A
USB Type C 2.0 Connector; Manufacturer: GCT; Circuits: 16; No. of Rows: 1; Pitch: 0.5 mm; Value: 16 Pin; Value Display: USB 2.0 Type-C; AEC-Q: NA; Category: Connector; ComponentLink1Description: Datasheet; ComponentLink1URL: https://mm.digikey.com/Volume0/opasdata/d220001/medias/docus/5492/USB4105.pdf; Manufacturer Part Number: USB4105-GF-A; Mount Type: Surface Mount; Package: SMT; RoHS: Yes; Supplier 1: Digikey; Supplier 1 Part Number: 2073-USB4105-GF-ACT-ND; Supplier 1 pricing per Unit: 67.8 INR; Supplier: Mouser; Supplier Part Number: 640-USB4105-GF-A; Supplier pricing per Unit: 67.55 INR; Value 1: USB4105-GF-A
footprint Con_USB4105-GF-A (USB Type C 2.0 Connector)
pins: A1B12 GND, A1B12 GND, A4B9 VBUS, A4B9 VBUS, A5 CC1, A6 DP1, A7 DN1, A8 SBU1, B1A12 GND, B1A12 GND, B4A9 VBUS, B4A9 VBUS, B5 CC2, B6 DP2, B7 DN2, B8 SBU2, X Shield

## Contactor_AEVA1251
designator Q?, comment AEVA1251
Contactor
pins: 1, 2

## Diode_BAT46W-7-F
designator D?, comment BAT46W-7-F
Diode 100 V 150mA Surface Mount SOD-123; Manufacturer: Diodes Inc.; AEC-Q: NA; Forward Voltage: 450mV @ 10mA; Max Temp: 125 degC; Min Temp: -55 degC; Power: 200mW; Voltage: 100V; Category: Diode; ComponentLink1Description: Datasheet; ComponentLink1URL: https://www.diodes.com/assets/Datasheets/BAT46W.pdf; Forward Current: 150mA; Manufacturer Part Number: BAT46W-7-F; Mount Type: Surface Mount; Package: SOD 123; RoHS: Yes; Supplier 1: Digikey; Supplier 1 Part Number: BAT46W-7FDICT-ND; Supplier 1 pricing per Unit: 32.55 INR; Supplier: Mouser; Supplier Part Number: 621-BAT46W-7-F; Supplier pricing per Unit: 25.02 INR; Value 1: BAT46W-7-F; Value: 100V 150mA; Value Display: 100V 150mA
footprint DIODE_SOD123 (BAT46W, MMSZ4697T1G, MMSZ5246BQ-7-F, SBR80520LT1G)
pins: 1 Cathode, 2 Anode

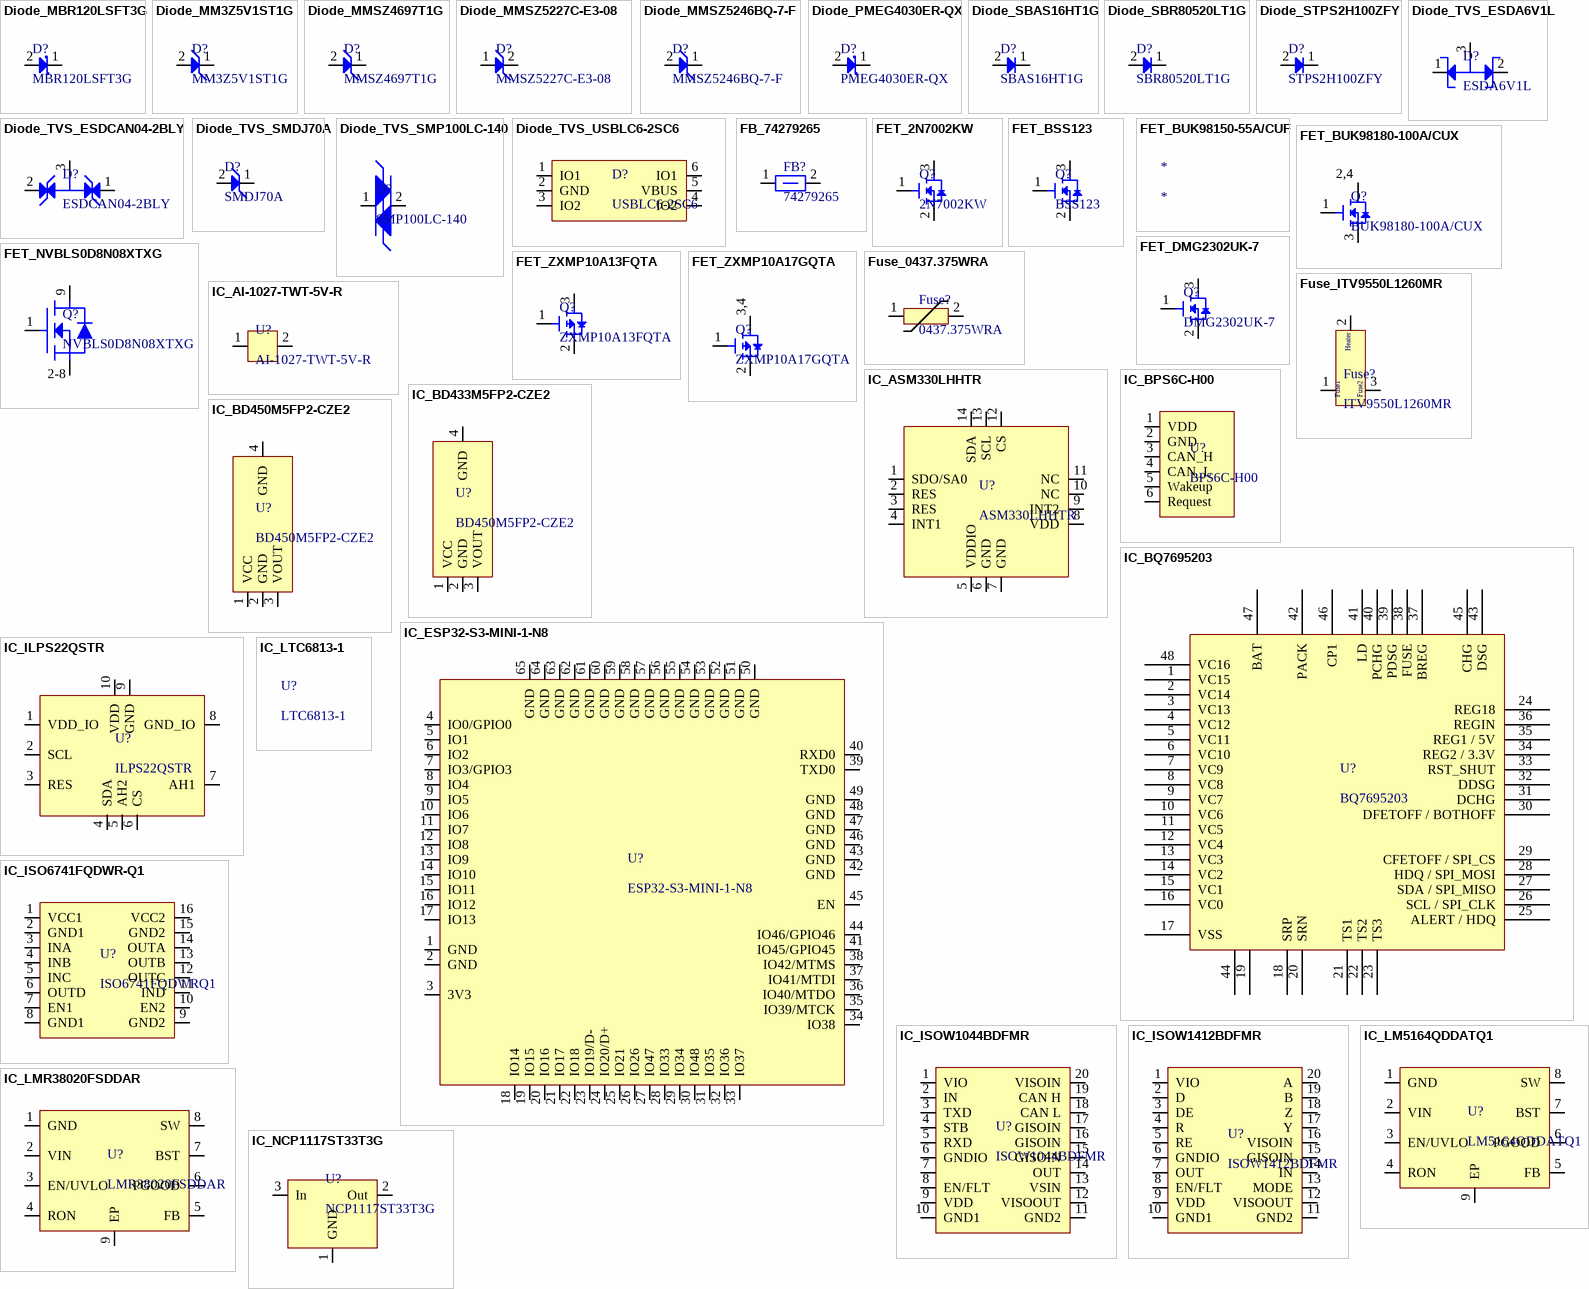
[diagram p1: symbols Diode_MBR120LSFT3G to IC_NCP1117ST33T3G]

## Diode_MBR120LSFT3G
designator D?, comment MBR120LSFT3G
DIODE SCHOTTKY 20V 1A SOD123FL; Manufacturer: OnSemi; AEC-Q: NA; Forward Voltage: 450mV @ 1A; Max Temp: 125 degC; Min Temp: -55 degC; Value: 20V 1A; Category: Diode; ComponentLink1Description: Datasheet; ComponentLink1URL: https://www.onsemi.com/pdf/datasheet/mbr120lsft1-d.pdf; Forward Current: 1A; Manufacturer Part Number: MBR120LSFT3G; Mount Type: Surface Mount; Package: SOD 123; RoHS: Yes; Supplier 1: Digikey; Supplier 1 Part Number: MBR120LSFT3GOSCT-ND; Supplier 1 pricing per Unit: 27.69 INR; Supplier: Mouser; Supplier Part Number: 863-MBR120LSFT3G; Supplier pricing per Unit: 38.36 INR; Value 1: MBR120LSFT3G; Value Display: 20V 1A; Voltage: 20V
footprint SODFL360X98-2N (SODFL, 2-Leads, Body 1.65x3.60mm, IPC Medium Density)
pins: 1 Cathode, 2 Anode

## Diode_MM3Z5V1ST1G
designator D?, comment MM3Z5V1ST1G
Zener Diode 5.6 V 300 mW ±2% Surface Mount SOD-323; Manufacturer: OnSemi; AEC-Q: NA; Forward Current: 2uA; Forward Voltage: 900 mV @ 5 mA; Max Temp: 150 degC; Min Temp: -65 degC; Power: 300mW; Value 1: MM3Z5V1ST1GOSCT-ND; Value: 5.1V; Category: Diode; ComponentLink1Description: Datasheet; ComponentLink1URL: https://www.onsemi.com/pdf/datasheet/mm3z2v4st1-d.pdf; Manufacturer Part Number: MM3Z5V1ST1G; Mount Type: Surface Mount; Package: SOD-323-2; RoHS: Yes; Supplier 1: Digikey; Supplier 1 Part Number: MM3Z5V1ST1GOSCT-ND; Supplier 1 pricing per Unit: 8.38 INR; Supplier: Mouser; Supplier Part Number: 863-MM3Z5V1ST1G; Supplier pricing per Unit: 10.01 INR; Value Display: 5.1V; Voltage: 5.1V
footprint DIODE_SOD323 (SBAS16HT1G,)
pins: 1 Cathode, 2 Anode

## Diode_MMSZ4697T1G
designator D?, comment MMSZ4697T1G
Zener Diode 10 V 500 mW ±5% Surface Mount SOD-123; Manufacturer: OnSemi; AEC-Q: NA; Forward Current: 30mA; Forward Voltage: 900 mV @ 10mA; Max Temp: 150 degC; Min Temp: -55 degC; Power: 500mW; Value: 10V; Category: Diode; ComponentLink1Description: Datasheet; ComponentLink1URL: https://www.onsemi.com/pdf/datasheet/mmsz4678t1-d.pdf; Manufacturer Part Number: MMSZ4697T1G; Mount Type: Surface Mount; Package: SOD 123; RoHS: Yes; Supplier 1: Digikey; Supplier 1 Part Number: MMSZ4697T1GOSCT-ND; Supplier 1 pricing per Unit: 14.19 INR; Supplier: Mouser; Supplier Part Number: 863-MMSZ4697T1G; Supplier pricing per Unit: 13.34 INR; Value 1: MMSZ4697T1G; Value Display: 10V; Voltage: 10V
footprint DIODE_SOD123 (BAT46W, MMSZ4697T1G, MMSZ5246BQ-7-F, SBR80520LT1G)
pins: 1 Cathode, 2 Anode

## Diode_MMSZ5227C-E3-08
designator D?, comment MMSZ5227C-E3-08
Zener Diode 3.6 V 500 mW ±2% Surface Mount SOD-123; Manufacturer: Vishay General; AEC-Q: NA; Forward Current: 20mA; Max Temp: 150 degC; Min Temp: -55 degC; Power: 500mW; Value: 3.6V; Category: Diode; ComponentLink1Description: Datasheet; ComponentLink1URL: https://www.vishay.com/docs/86344/mmsz5225_to_mmsz5267.pdf; Manufacturer Part Number: MMSZ5227C-E3-08; Mount Type: Surface Mount; Package: SOD 123; RoHS: Yes; Supplier 1: Digikey; Supplier 1 Part Number: 112-MMSZ5227C-E3-08CT-ND; Supplier 1 pricing per Unit: 26.78 INR; Supplier: Mouser; Supplier Part Number: 78-MMSZ5227C-E3-08; Supplier pricing per Unit: 26.69 INR; Value 1: MMSZ5227C-E3-08; Value Display: 3.6V; Voltage: 3.6V
footprint DIODE_SOD123_Inv (MMSZ5227C-E3-08)
pins: 1 Anode, 2 Cathode

## Diode_MMSZ5246BQ-7-F
designator D?, comment MMSZ5246BQ-7-F
Zener Diode 16 V 500 mW ±5% Surface Mount SOD-123; Manufacturer: Diodes Inc.; AEC-Q: 101; Forward Current: 30mA; Forward Voltage: 900 mV @ 10 mA; Max Temp: 150 degC; Min Temp: -65 degC; Power: 370mW; Value: 16V 30mA; Voltage: 16V; Category: Diode; ComponentLink1Description: Datasheet; ComponentLink1URL: https://www.diodes.com/assets/Datasheets/ds18010.pdf; Manufacturer Part Number: MMSZ5246BQ-7-F; Mount Type: Surface Mount; Package: SOD 123; RoHS: Yes; Supplier 1: Digikey; Supplier 1 Part Number: 31-MMSZ5246BQ-7-FTR-ND; Supplier: Mouser; Value 1: MMSZ5246BQ-7-F; Value Display: 16V 30mA; Supplier 1 pricing per Unit: 17.9 INR; Supplier Part Number: 621-MMSZ5246BQ-7-F; Supplier pricing per Unit: 17.71 INR
footprint DIODE_SOD123 (BAT46W, MMSZ4697T1G, MMSZ5246BQ-7-F, SBR80520LT1G)
pins: 1 Cathode, 2 Anode

## Diode_PMEG4030ER-QX
designator D?, comment PMEG4030ER-QX
Schottky Diodes & Rectifiers PMEG4030ER-Q/SOD123W/SOD2
footprint DIODE_SOD123 (BAT46W, MMSZ4697T1G, MMSZ5246BQ-7-F, SBR80520LT1G)
pins: 1 Cathode, 2 Anode

## Diode_SBAS16HT1G
designator D?, comment SBAS16HT1G
DIODE GEN PURP 100V 200MA SOD323; Manufacturer: OnSemi; AEC-Q: 101; Max Temp: 150 degC; Min Temp: -55 degC; Forward Voltage: 1.25V @150mA; Power: 200mW; Value: 100V 200mA; Manufacturer Part Number: SBAS16HT1G; Supplier: Mouser; Supplier 1 pricing per Unit: 10.84 INR; Package: SOD 323; Category: Diode; RoHS: Yes; ComponentLink1Description: Datasheet; ComponentLink1URL: https://www.onsemi.com/pdf/datasheet/bas16ht1-d.pdf; Supplier 1: Digikey; Value 1: SBAS16HT1G; Value Display: 100V 200mA; Voltage: 100V; Supplier 1 Part Number: SBAS16HT1GOSCT-ND; Supplier Part Number: 863-SBAS16HT1G; Supplier pricing per Unit: 15.01 INR; Mount Type: Surface Mount; Forward Current: 200mA
footprint DIODE_SOD323 (SBAS16HT1G,)
pins: 1 Cathode, 2 Anode

## Diode_SBR80520LT1G
designator D?, comment SBR80520LT1G
Diode 20 V 500mA Surface Mount SOD-123; Manufacturer: OnSemi; AEC-Q: NA; Forward Voltage: 385 mV @ 500 mA; Max Temp: 125 degC; Min Temp: -65 degC; Voltage: 20V; Category: Diode; ComponentLink1Description: Datasheet; ComponentLink1URL: https://www.onsemi.com/pdf/datasheet/mbr0520lt1-d.pdf; Forward Current: 500mA; Manufacturer Part Number: SBR80520LT1G; Mount Type: Surface Mount; Package: SOD 123; RoHS: Yes; Supplier 1: Digikey; Supplier 1 Part Number: SBR80520LT1GOSCT-ND; Supplier 1 pricing per Unit: 34.22 INR; Supplier: Mouser; Supplier Part Number: 863-SBR80520LT1G; Supplier pricing per Unit: 34.19 INR; Value 1: SBR80520LT1G; Value: 20V 500mA; Value Display: 20V 500mA
footprint DIODE_SOD123 (BAT46W, MMSZ4697T1G, MMSZ5246BQ-7-F, SBR80520LT1G)
pins: 1 Cathode, 2 Anode

## Diode_STPS2H100ZFY
designator D?, comment STPS2H100ZFY
Diode 100 V 2A Surface Mount SOD-123F; Manufacturer: ST; AEC-Q: 101; Forward Voltage: 0.7V @ 2A; Max Temp: 175 degC; Min Temp: -40 degC; Value: 100V 2A; Voltage: 100V; Category: Diode; ComponentLink1Description: Datasheet; ComponentLink1URL: https://www.st.com/content/ccc/resource/technical/document/datasheet/group3/ee/fd/cc/9a/a8/bc/46/dd/DM00306086/files/DM00306086.pdf/jcr:content/translations/en.DM00306086.pdf; Forward Current: 2A; Manufacturer Part Number: STPS2H100ZFY; Mount Type: Surface Mount; Package: SOD 123; RoHS: Yes; Supplier 1: Digikey; Supplier 1 Part Number: 497-17158-1-ND; Supplier 1 pricing per Unit: 36.72 INR; Supplier: Mouser; Supplier Part Number: 511-STPS2H100ZFY; Supplier pricing per Unit: 36.70 INR; Value 1: STPS2H100ZFY; Value Display: 100V 2A
footprint SODFL350X110-2N (SODFL, 2-Leads, Body 1.65x3.50mm, IPC Medium Density)
pins: 1 Cathode, 2 Anode

## Diode_TVS_ESDA6V1L
designator D?, comment ESDA6V1L
Clamp Ipp Tvs Diode Surface Mount SOT-23-3 Unidirectional; Manufacturer: ST; AEC-Q: NA; Max Temp: 125 degC; Min Temp: -40 degC; Power: 300W; Voltage: 6.1V; Category: TVS Diode; ComponentLink1Description: Datasheet; ComponentLink1URL: https://www.st.com/content/ccc/resource/technical/document/datasheet/eb/9f/a7/ac/7b/b6/46/7f/CD00002057.pdf/files/CD00002057.pdf/jcr:content/translations/en.CD00002057.pdf; Manufacturer Part Number: ESDA6V1L; Mount Type: Surface Mount; Package: SOT 23-3; RoHS: Yes; Supplier 1: Digikey; Supplier 1 Part Number: 497-2930-1-ND; Supplier 1 pricing per Unit: 31.71 INR; Supplier: Mouser; Supplier Part Number: 511-ESDA6V1L; Supplier pricing per Unit: 33.36 INR; Value 1: ESDA6V1L; Value: ESDA6V1L; Value Display: ESDA6V1L
footprint SOT95P255X140-3N (SOT23, 3-Leads, Body 2.90x2.55mm, Pitch 0.95mm, IPC Medium Density)
pins: 1 Cathode, 2 Cathode, 3 Anode

## Diode_TVS_ESDCAN04-2BLY
designator D?, comment ESDCAN04-2BLY
43V Clamp 3.7A (8/20µs) Ipp Tvs Diode Surface Mount SOT-23-3 Bidirectional; Manufacturer: ST; AEC-Q: 101; Max Temp: 150 degC; Min Temp: -40 degC; Power: 230W; Category: TVS Diode; ComponentLink1Description: Datasheet; ComponentLink1URL: https://www.st.com/resource/en/datasheet/esdcan01-2bly.pdf; Manufacturer Part Number: ESDCAN04-2BLY; Mount Type: Surface Mount; Package: SOT 23-3; RoHS: Yes; Supplier 1: Digikey; Supplier 1 Part Number: 497-19089-1-ND; Supplier 1 pricing per Unit: 35.05 INR; Supplier: Mouser; Supplier Part Number: 511-ESDCAN04-2BLY; Supplier pricing per Unit: 34.19 INR; Value 1: ESDCAN04-2BLY; Value: ESDCAN04-2BLY; Value Display: ESDCAN04-2BLY; Voltage: 43V
footprint SOT95P255X125-3N (SOT23, 3-Leads, Body 2.90x2.55mm, Pitch 0.95mm, IPC Medium Density)
pins: 1 Cathode, 2 Anode, 3

## Diode_TVS_SMDJ70A
designator D?, comment SMDJ70A
113V Clamp 31A Ipp Tvs Diode Surface Mount DO-214AB (SMCJ); Manufacturer: LittleFuse; AEC-Q: NA; Max Temp: 150 degC; Min Temp: -65 degC; Power: 3kW (Peak); Category: TVS Diode; ComponentLink1Description: Datasheet; ComponentLink1URL: https://www.littelfuse.com/media?resourcetype=datasheets&itemid=2d9772b3-822b-4362-914d-b74e0a706638&filename=littelfuse-tvs-diode-smdj-datasheet; Manufacturer Part Number: SMDJ70A; Mount Type: Surface Mount; Package: DO-214AB (SMCJ); RoHS: Yes; Supplier 1: Digikey; Supplier 1 Part Number: SMDJ70ACT-ND; Supplier 1 pricing per Unit: 74.28 INR; Supplier: Mouser; Supplier Part Number: 576-SMDJ70A; Supplier pricing per Unit: 73.39 INR; Value 1: SMDJ70A; Value: 113V; Value Display: 113V; Voltage: 113V
footprint DIODE_SMDJ70A (SMC J lead Diode)
pins: 1 Cathode, 2 Anode

## Diode_TVS_SMP100LC-140
designator D?, comment SMP100LC-140
140V Off-State 400 A Ipp TVS Thyristor DO-214AA, SMB; Manufacturer: ST; AEC-Q: NA; Category: TVS Diode; ComponentLink1Description: Datasheet; ComponentLink1URL: https://www.st.com/content/ccc/resource/technical/document/datasheet/56/56/46/9e/00/a0/48/db/CD00002051.pdf/files/CD00002051.pdf/jcr:content/translations/en.CD00002051.pdf; Manufacturer Part Number: SMP100LC-140; Max Temp: NA; Min Temp: NA; Mount Type: Surface Mount; Package: DO-214AA, SMB; RoHS: Yes; Supplier 1: Digikey; Supplier 1 Part Number: 497-4088-1-ND; Supplier 1 pricing per Unit: 63.38 INR; Supplier: Mouser; Supplier Part Number: 511-SMP100LC-140; Supplier pricing per Unit: 63.38 INR; Value 1: SMP100LC-140; Value: 140V; Value Display: 140V; Voltage: 140V
footprint DIODE_SMP100LC-140 (SMP100LC-140)
pins: 1, 2

## Diode_TVS_USBLC6-2SC6
designator D?, comment USBLC6-2SC6
17V Clamp 5A (8/20µs) Ipp Tvs Diode Surface Mount SOT-23-6; Manufacturer: ST; AEC-Q: NA; Max Temp: 150 degC; Min Temp: -40 degC; Value: 5.25V; Category: TVS Diode; ComponentLink1Description: Datasheet; ComponentLink1URL: https://www.st.com/content/ccc/resource/technical/document/datasheet/06/1d/48/9c/6c/20/4a/b2/CD00050750.pdf/files/CD00050750.pdf/jcr:content/translations/en.CD00050750.pdf; Manufacturer Part Number: USBLC6-2SC6; Mount Type: Surface Mount; Package: SOT 23-6; RoHS: Yes; Supplier 1: Digikey; Supplier 1 Part Number: 497-5235-1-ND; Supplier 1 pricing per Unit: 29.30 INR; Supplier: Mouser; Supplier Part Number: 511-USBLC6-2SC6; Supplier pricing per Unit: 29.19 INR; Value 1: USBLC6-2SC6; Value Display: 5.25V; Voltage: 5.25V
footprint SOT95P280X145-6N (SOT23, 6-Leads, Body 2.93x2.80mm, Pitch 0.95mm, IPC Medium Density)
pins: 1 IO1, 2 GND, 3 IO2, 4 IO2, 5 VBUS, 6 IO1

## FB_74279265
designator FB?, comment 74279265
600 Ohms @ 100 MHz 1 Signal Line Ferrite Bead 0603 (1608 Metric) 200mA 450mOhm; Manufacturer: Wurth Electronik; AEC-Q: 200; Max Temp: 125 degC; Min Temp: -55 degC; Value 1: 600 Ohms @100MHHz; Category: Ferrite Bead; ComponentLink1Description: Datasheet; ComponentLink1URL: https://www.we-online.com/components/products/datasheet/74279265.pdf; Manufacturer Part Number: 74279265; Mount Type: Surface Mount; Package: 0603; RoHS: Yes; Supplier 1: Digikey; Supplier 1 Part Number: 732-1583-1-ND; Supplier 1 pricing per Unit: 15.07 INR; Supplier: Mouser; Supplier Part Number: 710-74279265; Supplier pricing per Unit: 14.10 INR; Value: 74279265; Value Display: 600 Ohms
footprint RESC1608X05N 0603 (Chip Resistor, 2-Leads, Body 1.55x0.85mm, IPC Medium Density)
pins: 1, 2

## FET_2N7002KW
designator Q?, comment 2N7002KW
N-Channel 60 V 310mA (Ta) 350mW (Ta) Surface Mount SOT-323; Manufacturer: OnSemi; AEC-Q: NA; Forward Voltage: 60V; Max Temp: 150 degC; Min Temp: -55 degC; Rds ON: 1.6Ohms @500mA 10V; Category: MOSFET; ComponentLink1Description: Datasheet; ComponentLink1URL: https://www.onsemi.com/pdf/datasheet/2n7002kw-d.pdf; Forward Current: 310mA; Manufacturer Part Number: 2N7002KW; Mount Type: Surface Mount; Package: SOT 32-3; Power: 350mW; RoHS: Yes; Supplier 1: Digikey; Supplier: Mouser; Value 1: 2N7002KW; Value: 60V 310mA; Value Display: 60V 310mA; Voltage: 60V; Channel: N-Channel
footprint SOT65P210X110-3N (SOT23, 3-Leads, Body 2.00x2.10mm, Pitch 0.65mm, IPC Medium Density)
pins: 1 Gate, 2 Source, 3 Drain

## FET_BSS123
designator Q?, comment BSS123
N-Channel 100 V 200mA 350mW (Ta) Surface Mount SOT-23-3; Manufacturer: OnSemi; AEC-Q: NA; Forward Voltage: 100V; Max Temp: 150 degC; Min Temp: -55 degC; Rds ON: 6Ohms @ 170mA, 10V; Category: MOSFET; ComponentLink1Description: Datasheet; ComponentLink1URL: https://www.onsemi.com/pdf/datasheet/bss123-d.pdf; Forward Current: 200mA; Manufacturer Part Number: BSS123; Mount Type: Surface Mount; Package: SOT 23-3; Power: 350mW; RoHS: Yes; Supplier 1: Digikey; Supplier 1 Part Number: BSS123NCT-ND; Supplier 1 pricing per Unit: 29.21 INR; Supplier: Mouser; Supplier Part Number: 512-BSS123; Supplier pricing per Unit: 29.19 INR; Value 1: BSS123; Value: 100V 200mA; Value Display: 100V 200mA; Voltage: 100V; Channel: N-Channel
footprint SOT95P255X140-3N (SOT23, 3-Leads, Body 2.90x2.55mm, Pitch 0.95mm, IPC Medium Density)
pins: 1 Gate, 2 Source, 3 Drain

## FET_BUK98150-55A/CUF
designator *